# Altium footprint library Chips.PcbLib: 57 footprints (part 2 of 4)
Each footprint in its own frame and in the unit in brackets; x right, y up, seen from the top. Pads: shape width x height; smd on the part's side, far side on the other; paste and mask are expansions set on the pad; w line width, h text height; cw(c..) or ccw(c..) is an arc to the next point about the centre after c.
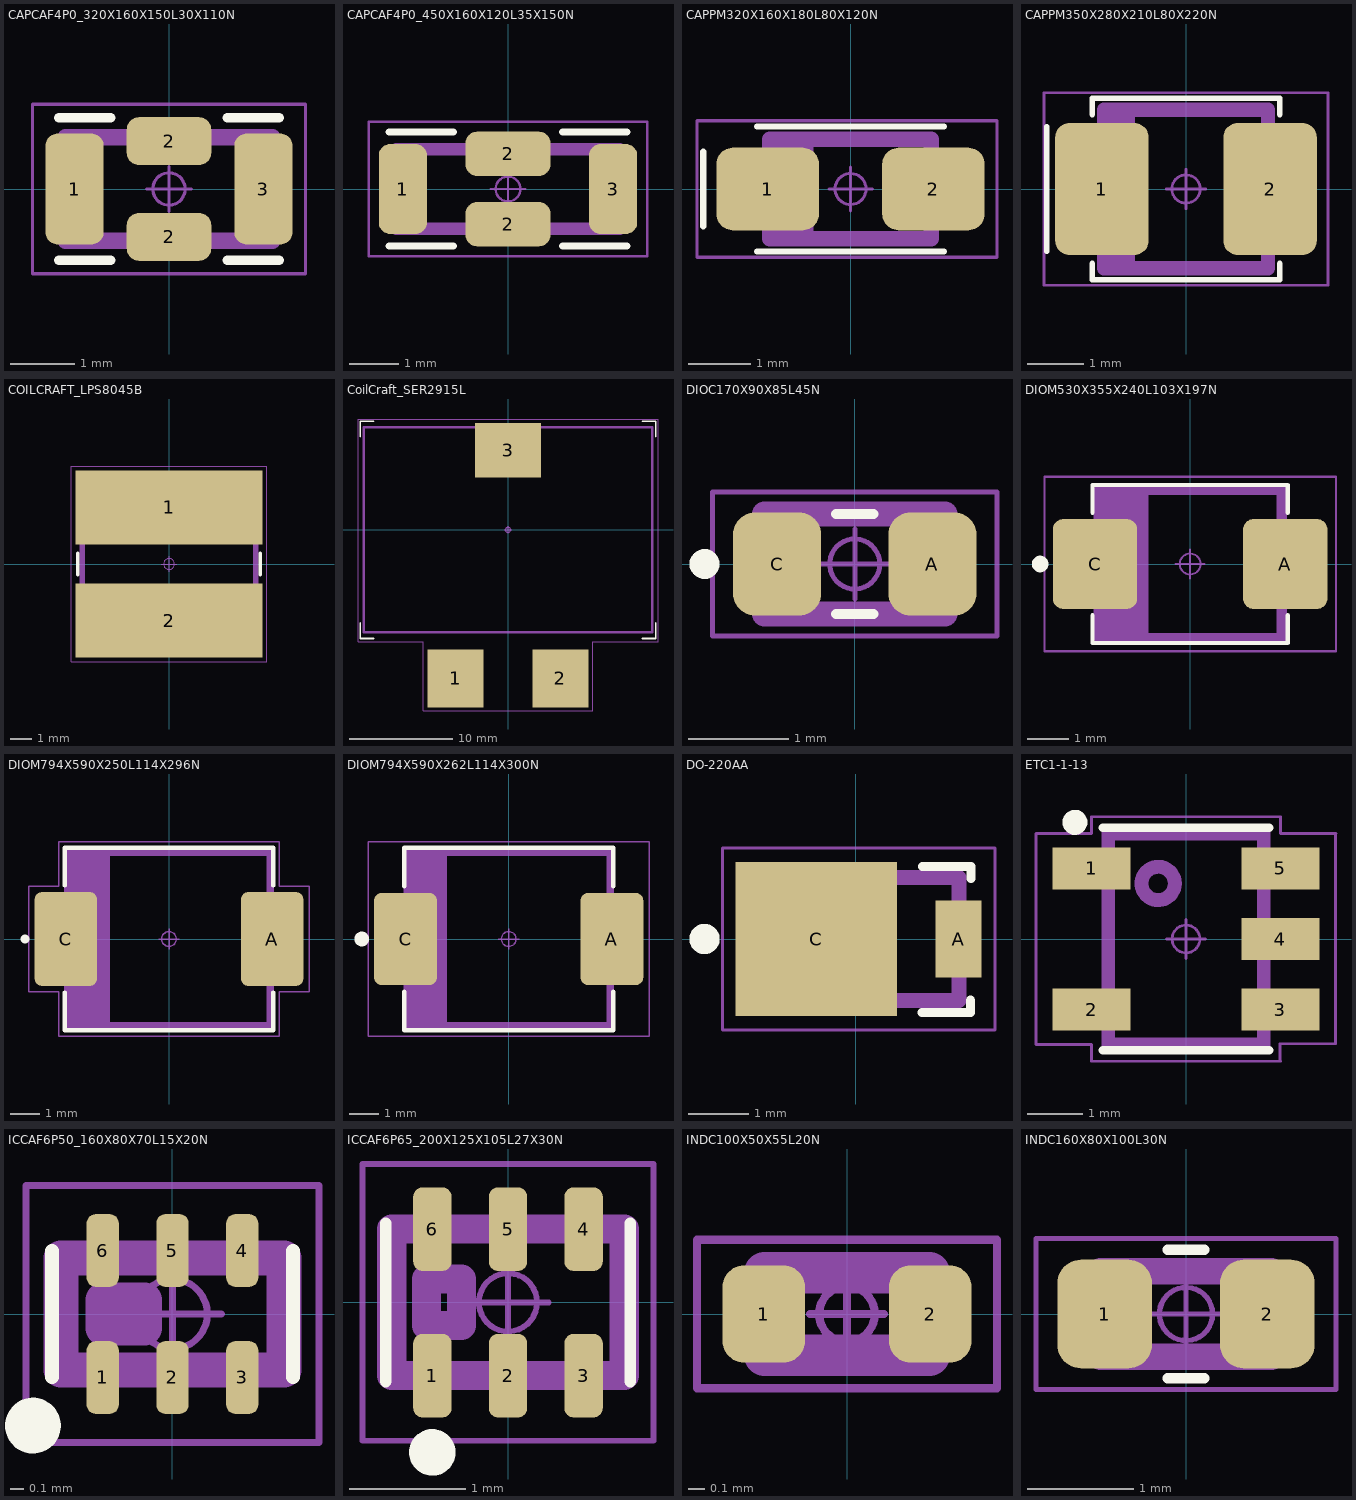
[diagram p1: the footprints below, top view; thin cyan lines are the x and y axes]

## CAPCAF4P0_320X160X150L30X110N [mm] "Chip Array, 4 Side Flat, 0.00 mm pitch; rect., 1 pin X 1 pin, 3.20 mm L X 1.60 mm W X 1.50 mm H body"
height 1.5
pads (4):
  rrect42% 0.9x1.72 smd: 1(-1.46,0) 3(1.46,0)
  rrect51% 1.31x0.74 smd: 2(0,-0.74) 2(0,0.74)
Top Overlay:
  lines w0.15: -1.7,-1.1 -0.9,-1.1 ; -1.7,1.1 -0.9,1.1 ; 0.9,-1.1 1.7,-1.1 ; 0.9,1.1 1.7,1.1
Top Assembly:
  lines w0.25: -1.6,-0.8 -1.6,0.8 1.6,0.8 1.6,-0.8 -1.6,-0.8
  text ".Designator" at 0,0 h1.5
Top Courtyard:
  circle w0.05: c0,0 r0.25
  lines w0.05: -0.35,0 0.35,0 ; 0,-0.35 0,0.35 ; -2.11,-1.31 -2.11,1.31 2.11,1.31 2.11,-1.31 -2.11,-1.31
3D body "3-terminal_CAPC1206.STEP": height 1.3, standoff 0, extent -1.6,-0.8 1.6,0.8

## CAPCAF4P0_450X160X120L35X150N [mm] "Chip Array, 4 Side Flat, 0.00 mm pitch; rect., 1 pin X 1 pin, 4.50 mm L X 1.60 mm W X 1.20 mm H body"
height 1.2
pads (4):
  rrect45% 0.97x1.81 smd: 1(-2.12,0) 3(2.12,0)
  rrect49% 1.71x0.89 smd: 2(0,-0.71) 2(0,0.71)
Top Overlay:
  lines w0.15: -2.4,-1.15 -1.1,-1.15 ; -2.4,1.15 -1.1,1.15 ; 1.1,-1.15 2.4,-1.15 ; 1.1,1.15 2.4,1.15
Top Assembly:
  lines w0.25: -2.25,-0.8 2.25,-0.8 2.25,0.8 -2.25,0.8 -2.25,-0.8
  text ".Designator" at -2,-0.5 h1.5
Top Courtyard:
  circle w0.05: c0,0 r0.25
  lines w0.05: -0.35,0 0.35,0 ; 0,-0.35 0,0.35 ; -2.81,-1.36 2.81,-1.36 2.81,1.36 -2.81,1.36 -2.81,-1.36
3D body "3-terminal_CAPC1806.SLDPRT": height 1, standoff 0, extent -2.25,-0.8 2.25,0.8

## CAPPM320X160X180L80X120N [mm] "Capacitor, Polarized, Molded Body; 2.60 mm L X 1.60 mm W X 1.80 mm H body"
height 1.8
pads (2):
  rrect38% 1.65x1.33 smd: 1(-1.335,0) 2(1.335,0)
Top Overlay:
  lines w0.1: -2.375,-0.6 -2.375,0.6 ; -1.505,-1.005 1.505,-1.005 ; -1.505,1.005 1.505,1.005
Top Assembly:
  rectangle: -1.3,-0.8 -0.6,0.8
  lines w0.25: -1.3,-0.8 1.3,-0.8 1.3,0.8 -1.3,0.8 -1.3,-0.8
  text ".Designator" at -2.4,1.4 h1.5
Top Courtyard:
  circle w0.05: c0,0 r0.25
  lines w0.05: -0.35,0 0.35,0 ; 0,-0.35 0,0.35 ; -2.475,-1.1 2.36,-1.1 2.36,1.1 -2.475,1.1 -2.475,-1.1
3D body "CAPPM320X160X180L80X120.STEP": height 1.8, standoff 0, extent -1.6,-0.8 1.6,0.8

## CAPPM350X280X210L80X220N [mm] "Capacitor, Polarized, Molded Body; 2.90 mm L X 2.80 mm W X 2.10 mm H body"
height 2.1
pads (2):
  rrect30% 1.65x2.33 smd: 1(-1.485,0) 2(1.485,0)
Top Overlay:
  lines w0.1: -2.46,-1.1 -2.46,1.1 ; -1.655,-1.315 -1.655,-1.605 1.655,-1.605 1.655,-1.315 ; -1.655,1.315 -1.655,1.605 1.655,1.605 1.655,1.315
Top Assembly:
  rectangle: -1.5,-1.4 -0.9,1.4
  lines w0.25: -1.45,-1.4 -1.45,1.4 1.45,1.4 1.45,-1.4 -1.45,-1.4
  text ".Designator" at -2.3,2 h1.5
Top Courtyard:
  circle w0.05: c0,0 r0.25
  lines w0.05: -0.35,0 0.35,0 ; 0,-0.35 0,0.35 ; -2.51,-1.7 -2.51,1.7 2.51,1.7 2.51,-1.7 -2.51,-1.7
3D body "CAPPM350X280X210L80X220.STEP": height 2.1, standoff 0, extent -1.75,-1.4 1.75,1.4

## COILCRAFT_LPS8045B [mm] "Coilcraft LPS8045B"
height 4.5
pads (2):
  rect 8.6x3.4 smd: 1(0,2.6) 2(0,-2.6)
Top Overlay:
  lines w0.15: -4.2,-0.5 -4.2,0.5 ; 4.2,-0.5 4.2,0.5
Top Assembly:
  circle w0.25: c-2.5,2.5 r0.5
  lines w0.25: -4,-3 -3,-4 3,-4 4,-3 4,3 3,4 -3,4 -4,3 -4,-3
  text ".Designator" at -3.3,-0.4 h1.5
Top Courtyard:
  circle w0.05: c0,0 r0.25
  lines w0.05: -0.35,0 0.35,0 ; 0,-0.35 0,0.35 ; -4.5,-4.5 4.5,-4.5 4.5,4.5 -4.5,4.5 -4.5,-4.5
3D body "LPS8045B.STEP": height 4.5, standoff 0, extent -4,-4 4,4

## CoilCraft_SER2915L [mm] "CoilCraft Power Inductor"
height 15.36
pads (3):
  rect 5.4x5.6 smd paste-0.55 mask-0.55: 1(-5.075,-14.35) 2(5.075,-14.35)
  rect 6.4x5.3 smd paste-0.55 mask-0.55: 3(0,7.7)
Top Overlay:
  lines w0.15: -14.3,-9 -14.3,-10.5 -13,-10.5 ; -14.3,9 -14.3,10.5 -13,10.5 ; 13,-10.5 14.3,-10.5 14.3,-9 ; 13,10.5 14.3,10.5 14.3,9
Top Assembly:
  lines w0.25: -13.95,-9.9 -13.95,9.9 13.95,9.9 13.95,-9.9 -13.95,-9.9
  text ".Designator" at -4,-0.3 h2
Top Courtyard:
  circle w0.05: c0,0 r0.25
  lines w0.05: -0.35,0 0.35,0 ; 0,-0.35 0,0.35 ; -14.5,-10.8 -8.2,-10.8 -8.2,-17.5 8.2,-17.5 8.2,-10.8 14.5,-10.8 14.5,10.7 -14.5,10.7 -14.5,-10.8
3D body "Coilcraft-SER2915L.step": height 15.3, standoff -0.06, extent -13.951,-15.901 13.951,11.14

## DIOC170X90X85L45N [mm] "Diode, Chip; 1.70 mm L X 0.90 mm W X 0.85 mm H body"
height 0.85
pads (2):
  rrect50% 0.88x1.03 smd: A(0.775,0) C(-0.775,0)
Top Overlay:
  circle w0.15: c-1.5,0 r0.075
  lines w0.1: -0.185,-0.5 0.185,-0.5 ; -0.185,0.5 0.185,0.5
Top Assembly:
  rectangle: -0.9,-0.5 -0.5,0.5
  lines w0.25: -0.9,-0.5 -0.9,0.5 0.9,0.5 0.9,-0.5 -0.9,-0.5
  text ".Designator" at -2.6,1 h1.5
Top Courtyard:
  circle w0.05: c0,0 r0.25
  lines w0.05: -0.35,0 0.35,0 ; 0,-0.35 0,0.35 ; -1.42,-0.72 -1.42,0.72 1.42,0.72 1.42,-0.72 -1.42,-0.72
3D body "DIOC170X90X85L45.STEP": height 0.85, standoff 0, extent -0.85,-0.45 0.85,0.45

## DIOM530X355X240L103X197N [mm] "Diode, Molded Body; 5.30 mm L X 3.55 mm W X 2.40 mm H body"
height 2.4
pads (2):
  rrect25% 2.03x2.17 smd: A(2.29,0) C(-2.29,0)
Top Overlay:
  circle w0.2: c-3.61,0 r0.1
  lines w0.1: -2.35,-1.235 -2.35,-1.9 2.35,-1.9 2.35,-1.235 ; -2.35,1.235 -2.35,1.9 2.35,1.9 2.35,1.235
Top Assembly:
  rectangle: -2.2,-1.78 -0.997,1.78
  lines w0.25: -2.2,-1.78 2.2,-1.78 2.2,1.78 -2.2,1.78 -2.2,-1.78
  text ".Designator" at -0.8,-0.4 h1.5
Top Courtyard:
  circle w0.05: c0,0 r0.25
  lines w0.05: -0.35,0 0.35,0 ; 0,-0.35 0,0.35 ; -3.51,-2.1 3.51,-2.1 3.51,2.1 -3.51,2.1 -3.51,-2.1
3D body "DIOM530X355X240L103X197.STEP": height 2.4, standoff 0, extent -2.65,-1.775 2.65,1.775

## DIOM794X590X250L114X296N [mm] "Diode, Molded Body; 6.855 mm L X 5.905 mm W X 2.50 mm H body"
height 2.5
pads (2):
  rrect23% 2.13x3.19 smd: A(3.51,0) C(-3.51,0)
Top Overlay:
  circle w0.15: c-4.9,0 r0.075
  lines w0.15: -3.55,-1.82 -3.55,-3.1 3.55,-3.1 3.55,-1.82 ; -3.55,1.82 -3.55,3.1 3.55,3.1 3.55,1.82
Top Assembly:
  rectangle: -3.45,-3 -2,2.95
  lines w0.25: -3.45,-2.95 3.45,-2.95 3.45,2.95 -3.45,2.95 -3.45,-2.95
  text ".Designator" at -2.85,-0.55 h2
Top Courtyard:
  circle w0.05: c0,0 r0.25
  lines w0.05: -0.35,0 0.35,0 ; 0,-0.35 0,0.35 ; -4.775,-1.795 -3.76,-1.795 -3.76,-3.31 3.76,-3.31 3.76,-1.795 4.775,-1.795 4.775,1.795 3.76,1.795 3.76,3.31 -3.76,3.31 -3.76,1.795 -4.775,1.795 -4.775,-1.795
3D body "DIOM794X590X250L114X296.STEP": height 2.5, standoff 0, extent -3.97,-2.953 3.97,2.953

## DIOM794X590X262L114X300N [mm] "Diode, Molded Body; 6.855 mm L X 5.905 mm W X 2.62 mm H body"
height 2.62
pads (2):
  rrect23% 2.13x3.13 smd: A(3.51,0) C(-3.51,0)
Top Overlay:
  circle w0.25: c-5,0 r0.125
  lines w0.15: -3.55,-1.79 -3.55,-3.1 3.55,-3.1 3.55,-1.79 ; -3.55,1.79 -3.55,3.1 3.55,3.1 3.55,1.79
Top Assembly:
  rectangle: -3.45,-2.95 -2.1,2.95
  lines w0.25: -3.45,-2.95 3.45,-2.95 3.45,2.95 -3.45,2.95 -3.45,-2.95
  text ".Designator" at -1.6,-0.3 h1.5
Top Courtyard:
  circle w0.05: c0,0 r0.25
  lines w0.05: -0.35,0 0.35,0 ; 0,-0.35 0,0.35 ; -4.78,-3.31 4.78,-3.31 4.78,3.31 -4.78,3.31 -4.78,-3.31
3D body "DIOM794X590X262L114X300.STEP": height 2.62, standoff 0, extent -3.97,-2.953 3.97,2.953

## DO-220AA [mm] "Vishay DO-220AA"
height 1
pads (2):
  rect 0.762x1.27 smd paste+0: A(1.695,0)
  rect 2.67x2.54 smd paste+0: C(-0.656,0)
Top Overlay:
  circle w0.25: c-2.5,0 r0.125
  lines w0.15: 1.089,-1.211 1.889,-1.211 1.889,-1.011 ; 1.1,1.2 1.9,1.2 1.9,1
Top Assembly:
  rectangle: -1.7,-1.015 -1.042,1.015
  lines w0.25: -1.7,-1.015 1.7,-1.015 1.7,1.015 -1.7,1.015 -1.7,-1.015
  text ".Designator" at -0.856,-0.431 h1.5
Top Courtyard:
  circle w0.05: c0,0 r0.25
  lines w0.05: -0.35,0 0.35,0 ; 0,-0.35 0,0.35 ; -2.2,-1.5 2.2,-1.5 2.3,-1.5 2.3,1.5 2.2,1.5 -2.2,1.5 -2.2,-1.5
3D body "SMP Do-220AA.STEP": height 0.98, standoff 0, extent -1.85,-1.015 2,1.015

## ETC1-1-13 [mm] "MACOM ETC1-1-13"
height 2.75
pads (5):
  rect 1.4x0.76 smd: 1(-1.7,1.27) 2(-1.7,-1.27) 3(1.7,-1.27) 4(1.7,0) 5(1.7,1.27)
Top Overlay:
  circle w0.25: c-2,2.1 r0.1
  lines w0.15: -1.5,-2 1.5,-2 ; -1.5,2 1.5,2
Top Assembly:
  circle w0.25: c-0.5,1 r0.3
  lines w0.25: -1.4,-1.9 1.4,-1.9 1.4,1.9 -1.4,1.9 -1.4,-1.9
  text ".Designator" at 0.7,-1.6 h1.5
Top Courtyard:
  circle w0.05: c0,0 r0.25
  lines w0.05: -0.35,0 0.35,0 ; 0,-0.35 0,0.35 ; 1.691,-2.186 1.691,-1.886 2.691,-1.886 2.691,1.9 2.7,1.9 1.7,1.9 1.7,2.2 -1.7,2.2 -1.7,1.9 -2.7,1.9 -2.7,-1.9 -1.7,-1.9 -1.7,-2.2 1.7,-2.2
3D body: height 0.91, standoff 0, extent 0.175,-0.675 0.175,-0.675
3D body "ETC1-1-13.SLDPRT": height 2.75, standoff 0, extent -1.97,-1.915 1.97,1.915

## ICCAF6P50_160X80X70L15X20N [mm] "Chip Array, 2 Side Flat, 0.50 mm pitch; 6 pin, 1.60 mm L X 0.80 mm W X 0.70 mm H body"
height 0.7
pads (6):
  rrect52% 0.23x0.52 smd: 1(-0.5,-0.455) 2(0,-0.455) 3(0.5,-0.455) 4(0.5,0.455) 5(0,0.455) 6(-0.5,0.455)
Top Overlay:
  circle w0.2: c-1,-0.8 r0.1
  lines w0.1: -0.865,-0.45 -0.865,0.45 ; 0.865,-0.45 0.865,0.45
Top Assembly:
  lines w0.25: -0.8,-0.4 0.8,-0.4 0.8,0.4 -0.8,0.4 -0.8,-0.4 ; -0.5,-0.1 -0.5,0.1 -0.2,0.1 -0.2,-0.1 -0.5,-0.1
  text ".Designator" at -1.8,0.8 h1.5
Top Courtyard:
  circle w0.05: c0,0 r0.25
  lines w0.05: -0.35,0 0.35,0 ; 0,-0.35 0,0.35 ; -1.05,-0.92 1.05,-0.92 1.05,0.92 -1.05,0.92 -1.05,-0.92
3D body "ICCAF6P50_160X80X70L15X20.STEP": height 0.7, standoff 0, extent -0.8,-0.45 0.8,0.45

## ICCAF6P65_200X125X105L27X30N [mm] "Chip Array, 2 Side Flat, 0.65 mm pitch; 6 pin, 2.00 mm L X 1.25 mm W X 1.05 mm H body"
height 1.05
pads (6):
  rrect48% 0.33x0.72 smd: 1(-0.65,-0.63) 2(0,-0.63) 3(0.65,-0.63) 4(0.65,0.63) 5(0,0.63) 6(-0.65,0.63)
Top Overlay:
  circle w0.2: c-0.65,-1.29 r0.1
  lines w0.1: -1.05,-0.68 -1.05,0.68 ; 1.05,-0.68 1.05,0.68
Top Assembly:
  lines w0.25: -1,-0.63 1,-0.63 1,0.63 -1,0.63 -1,-0.63 ; -0.7,-0.2 -0.7,0.2 -0.4,0.2 -0.4,-0.2 -0.7,-0.2
  text ".Designator" at -2,1.1 h1.5
Top Courtyard:
  circle w0.05: c0,0 r0.25
  lines w0.05: -0.35,0 0.35,0 ; 0,-0.35 0,0.35 ; -1.25,-1.19 1.25,-1.19 1.25,1.19 -1.25,1.19 -1.25,-1.19
3D body "ICCAF6P65_200X125X105L27X30.STEP": height 1.05, standoff 0, extent -1,-0.675 1,0.675

## INDC100X50X55L20N [mm] "Inductor, Chip; 1.00 mm L X 0.50 mm W X 0.55 mm H body"
height 0.55
pads (2):
  rrect52% 0.5x0.59 smd: 1(-0.505,0) 2(0.505,0)
Top Assembly:
  lines w0.25: -0.5,-0.25 -0.5,0.25 0.5,0.25 0.5,-0.25 -0.5,-0.25
  text ".Designator" at -1.3,0.6 h1.5
Top Courtyard:
  circle w0.05: c0,0 r0.169
  lines w0.05: -0.225,0 0.225,0 ; 0,-0.225 0,0.225 ; -0.91,-0.45 -0.91,0.45 0.91,0.45 0.91,-0.45 -0.91,-0.45
3D body "INDC100X50X55L20.STEP": height 0.55, standoff 0, extent -0.5,-0.25 0.5,0.25

## INDC160X80X100L30N [mm] "Inductor, Chip; 1.60 mm L X 0.80 mm W X 1.00 mm H body"
height 1
pads (2):
  rrect49% 0.89x1.02 smd: 1(-0.765,0) 2(0.765,0)
Top Overlay:
  lines w0.1: -0.17,-0.605 0.17,-0.605 ; -0.17,0.605 0.17,0.605
Top Assembly:
  lines w0.25: -0.8,-0.4 0.8,-0.4 0.8,0.4 -0.8,0.4 -0.8,-0.4
  text ".Designator" at -1.6,0.9 h1.5
Top Courtyard:
  circle w0.05: c0,0 r0.25
  lines w0.05: -0.35,0 0.35,0 ; 0,-0.35 0,0.35 ; -1.41,-0.71 1.41,-0.71 1.41,0.71 -1.41,0.71 -1.41,-0.71
3D body "INDC160X80X100L30.STEP": height 1, standoff 0, extent -0.8,-0.4 0.8,0.4